# EAGLE library part CY8C58LP-100PIN (library FlashPCB_ICs)
CY8C5888AXI - 32-Bit 256KB Microcontroller 100TQFP Technical Specifications: Number of I/O: 62 Core Size: 32-Bit Single-Core Speed: 80MHz Voltage - Supply (Vcc/Vdd): 1.71V ~ 5.5V Operating Temperature: -40°C ~ 85°C (TA) Component Search: CY8C5888AXI <https://www.flashpcb.com/components> Datasheet: PSoC® 5LP: CY8C58LP Family Datasheet Programmable System-on-Chip (PSoC®) <https://www.infineon.com/dgdl/Infineon-PSoC_5LP_CY8C58LP_Family_Datasheet_Programmable_System-on-Chip_(PSoC_)-DataSheet-v15_00-EN.pdf?fileId=8ac78c8c7d0d8da4017d0ec547013ab9]>
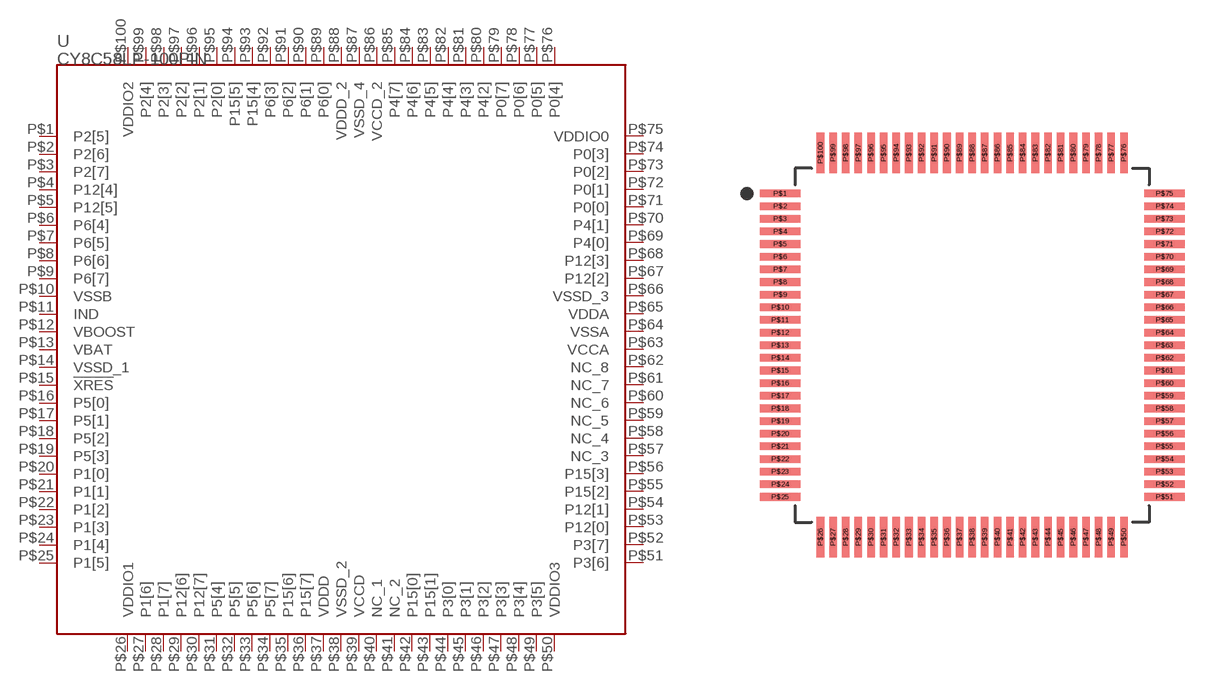
[diagram p39: symbol with the pads of 100-QFP(14X14); footprint 100-QFP(14X14)]

Designator prefix U

## CY8C58LP-100PIN  [100-QFP(14X14)]
P$1  P2[5]
P$2  P2[6]
P$3  P2[7]
P$4  P12[4]
P$5  P12[5]
P$6  P6[4]
P$7  P6[5]
P$8  P6[6]
P$9  P6[7]
P$10  VSSB
P$11  IND
P$12  VBOOST
P$13  VBAT
P$14  VSSD_1
P$15  !XRES!
P$16  P5[0]
P$17  P5[1]
P$18  P5[2]
P$19  P5[3]
P$20  P1[0]
P$21  P1[1]
P$22  P1[2]
P$23  P1[3]
P$24  P1[4]
P$25  P1[5]
P$26  VDDIO1
P$27  P1[6]
P$28  P1[7]
P$29  P12[6]
P$30  P12[7]
P$31  P5[4]
P$32  P5[5]
P$33  P5[6]
P$34  P5[7]
P$35  P15[6]
P$36  P15[7]
P$37  VDDD
P$38  VSSD_2
P$39  VCCD
P$40  NC_1
P$41  NC_2
P$42  P15[0]
P$43  P15[1]
P$44  P3[0]
P$45  P3[1]
P$46  P3[2]
P$47  P3[3]
P$48  P3[4]
P$49  P3[5]
P$50  VDDIO3
P$51  P3[6]
P$52  P3[7]
P$53  P12[0]
P$54  P12[1]
P$55  P15[2]
P$56  P15[3]
P$57  NC_3
P$58  NC_4
P$59  NC_5
P$60  NC_6
P$61  NC_7
P$62  NC_8
P$63  VCCA
P$64  VSSA
P$65  VDDA
P$66  VSSD_3
P$67  P12[2]
P$68  P12[3]
P$69  P4[0]
P$70  P4[1]
P$71  P0[0]
P$72  P0[1]
P$73  P0[2]
P$74  P0[3]
P$75  VDDIO0
P$76  P0[4]
P$77  P0[5]
P$78  P0[6]
P$79  P0[7]
P$80  P4[2]
P$81  P4[3]
P$82  P4[4]
P$83  P4[5]
P$84  P4[6]
P$85  P4[7]
P$86  VCCD_2
P$87  VSSD_4
P$88  VDDD_2
P$89  P6[0]
P$90  P6[1]
P$91  P6[2]
P$92  P6[3]
P$93  P15[4]
P$94  P15[5]
P$95  P2[0]
P$96  P2[1]
P$97  P2[2]
P$98  P2[3]
P$99  P2[4]
P$100  VDDIO2

## Footprint 100-QFP(14X14) (pad centres in mm)
smd 1.6 x 0.3: P$1 -7.6,6; P$2 -7.6,5.5; P$3 -7.6,5; P$4 -7.6,4.5; P$5 -7.6,4; P$6 -7.6,3.5; P$7 -7.6,3; P$8 -7.6,2.5; P$9 -7.6,2; P$10 -7.6,1.5; P$11 -7.6,1; P$12 -7.6,0.5; P$13 -7.6,0; P$14 -7.6,-0.5; P$15 -7.6,-1; P$16 -7.6,-1.5; P$17 -7.6,-2; P$18 -7.6,-2.5; P$19 -7.6,-3; P$20 -7.6,-3.5; P$21 -7.6,-4; P$22 -7.6,-4.5; P$23 -7.6,-5; P$24 -7.6,-5.5; P$25 -7.6,-6; P$51 7.6,-6; P$52 7.6,-5.5; P$53 7.6,-5; P$54 7.6,-4.5; P$55 7.6,-4; P$56 7.6,-3.5; P$57 7.6,-3; P$58 7.6,-2.5; P$59 7.6,-2; P$60 7.6,-1.5; P$61 7.6,-1; P$62 7.6,-0.5; P$63 7.6,0; P$64 7.6,0.5; P$65 7.6,1; P$66 7.6,1.5; P$67 7.6,2; P$68 7.6,2.5; P$69 7.6,3; P$70 7.6,3.5; P$71 7.6,4; P$72 7.6,4.5; P$73 7.6,5; P$74 7.6,5.5; P$75 7.6,6
smd 0.3 x 1.6: P$26 -6,-7.6; P$27 -5.5,-7.6; P$28 -5,-7.6; P$29 -4.5,-7.6; P$30 -4,-7.6; P$31 -3.5,-7.6; P$32 -3,-7.6; P$33 -2.5,-7.6; P$34 -2,-7.6; P$35 -1.5,-7.6; P$36 -1,-7.6; P$37 -0.5,-7.6; P$38 0,-7.6; P$39 0.5,-7.6; P$40 1,-7.6; P$41 1.5,-7.6; P$42 2,-7.6; P$43 2.5,-7.6; P$44 3,-7.6; P$45 3.5,-7.6; P$46 4,-7.6; P$47 4.5,-7.6; P$48 5,-7.6; P$49 5.5,-7.6; P$50 6,-7.6; P$76 6,7.6; P$77 5.5,7.6; P$78 5,7.6; P$79 4.5,7.6; P$80 4,7.6; P$81 3.5,7.6; P$82 3,7.6; P$83 2.5,7.6; P$84 2,7.6; P$85 1.5,7.6; P$86 1,7.6; P$87 0.5,7.6; P$88 0,7.6; P$89 -0.5,7.6; P$90 -1,7.6; P$91 -1.5,7.6; P$92 -2,7.6; P$93 -2.5,7.6; P$94 -3,7.6; P$95 -3.5,7.6; P$96 -4,7.6; P$97 -4.5,7.6; P$98 -5,7.6; P$99 -5.5,7.6; P$100 -6,7.6